# Altium footprint library Passives1.PcbLib: 6 footprints
Each footprint in its own frame and in the unit in brackets; x right, y up, seen from the top. Pads: shape width x height; smd on the part's side, far side on the other; paste and mask are expansions set on the pad; w line width, h text height; cw(c..) or ccw(c..) is an arc to the next point about the centre after c.
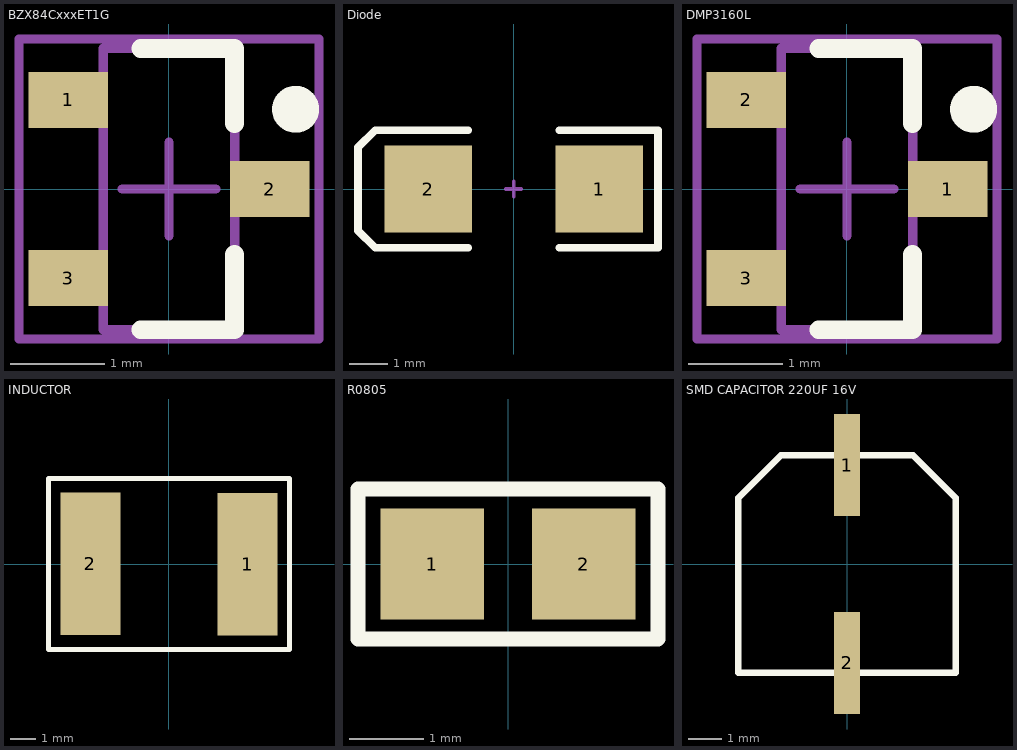
[diagram p0: the footprints below, top view; thin cyan lines are the x and y axes]

## BZX84CxxxET1G [mm] "SOT23, 3-Leads, Body 2.9x1.3mm, Pitch 0.95mm, Lead Span 2.3mm - Reverse Pinning, IPC High Density"
height 1.1
pads (3):
  rect 0.85x0.6 smd: 1(-1.075,0.95) 2(1.075,0) 3(-1.075,-0.95)
Top Overlay:
  circle w0.25: c1.35,0.85 r0.125
  lines w0.2: -0.3,-1.5 0.7,-1.5 0.7,-0.7 ; -0.3,1.5 0.7,1.5 0.7,0.7
Mechanical 13:
  lines w0.1: -0.7,-1.5 0.7,-1.5 0.7,1.5 -0.7,1.5 -0.7,-1.5
Mechanical 15:
  lines w0.1: -0.5,0 0.5,0 ; 0,-0.5 0,0.5 ; -1.6,-1.6 1.6,-1.6 1.6,1.6 -1.6,1.6 -1.6,-1.6
3D body: height 1.1, standoff 0, extent -0.7,-1.5 0.7,1.5

## Diode [mm] "DO-214-AA/SMB; 2 C-Bend Leads; Body 5.3 x 3.6 mm, inc. leads (LxW)"
height 2.54
pads (2):
  rect 2.3x2.3 smd: 1(2.25,0) 2(-2.25,0)
Top Overlay:
  lines w0.2: -1.2,-1.55 -3.65,-1.55 -4.1,-1.1 -4.1,1.1 -3.65,1.55 -1.2,1.55 ; 1.2,-1.55 3.8,-1.55 3.8,1.55 1.2,1.55
Mechanical 1:
  lines w0.1: -0.2,0 0.2,0 ; 0,-0.2 0,0.2
3D body: height 2, standoff 0, extent -2.54,-1.016 2.54,1.016

## DMP3160L [mm] "SOT23, 3-Leads, Body 2.9x1.3mm, Pitch 0.95mm, Lead Span 2.3mm - Reverse Pinning, IPC High Density"
height 1.1
pads (3):
  rect 0.85x0.6 smd: 1(1.075,0) 2(-1.075,0.95) 3(-1.075,-0.95)
Top Overlay:
  circle w0.25: c1.35,0.85 r0.125
  lines w0.2: -0.3,-1.5 0.7,-1.5 0.7,-0.7 ; -0.3,1.5 0.7,1.5 0.7,0.7
Mechanical 13:
  lines w0.1: -0.7,-1.5 0.7,-1.5 0.7,1.5 -0.7,1.5 -0.7,-1.5
Mechanical 15:
  lines w0.1: -0.5,0 0.5,0 ; 0,-0.5 0,0.5 ; -1.6,-1.6 1.6,-1.6 1.6,1.6 -1.6,1.6 -1.6,-1.6
3D body: height 1.1, standoff 0, extent -0.7,-1.5 0.7,1.5

## INDUCTOR [mm]
pads (2):
  rect 2.4x5.7 smd: 1(3.15,0) 2(-3.15,0)
Top Overlay:
  lines w0.2: -2.54,3.429 -4.826,3.429 -4.826,-3.429 2.8,-3.429 ; 3.683,-3.429 2.54,-3.429 4.826,-3.429 4.826,3.429 -2.8,3.429 3.683,3.429
3D body: height 4.5, standoff 0, extent -3.15,-3.149 3.15,3.149

## R0805 [mm]
pads (2):
  rect 1.4x1.5 smd: 1(-1.025,0) 2(1.025,0)
Top Overlay:
  lines w0.2: -2.032,-1.016 -2.032,1.016 2.032,1.016 2.032,-1.016 -2.032,-1.016
3D body: height 1, standoff 0, extent -1.397,-0.762 1.397,0.762

## SMD CAPACITOR 220UF 16V [mm]
pads (2):
  rect 0.8x3.1 smd: 1(0,3) 2(0,-3)
Top Overlay:
  lines w0.203: -3.3,-3.3 3.3,-3.3 3.3,2 2,3.3 -2,3.3 -3.3,2 -3.3,-3.3
3D body: height 5, standoff 0, extent -3,-2.999 3,2.999